# Altium integrated library ON Semi Transient Voltage Suppressors (TVS).IntLib: 730 symbols (part 8 of 17)
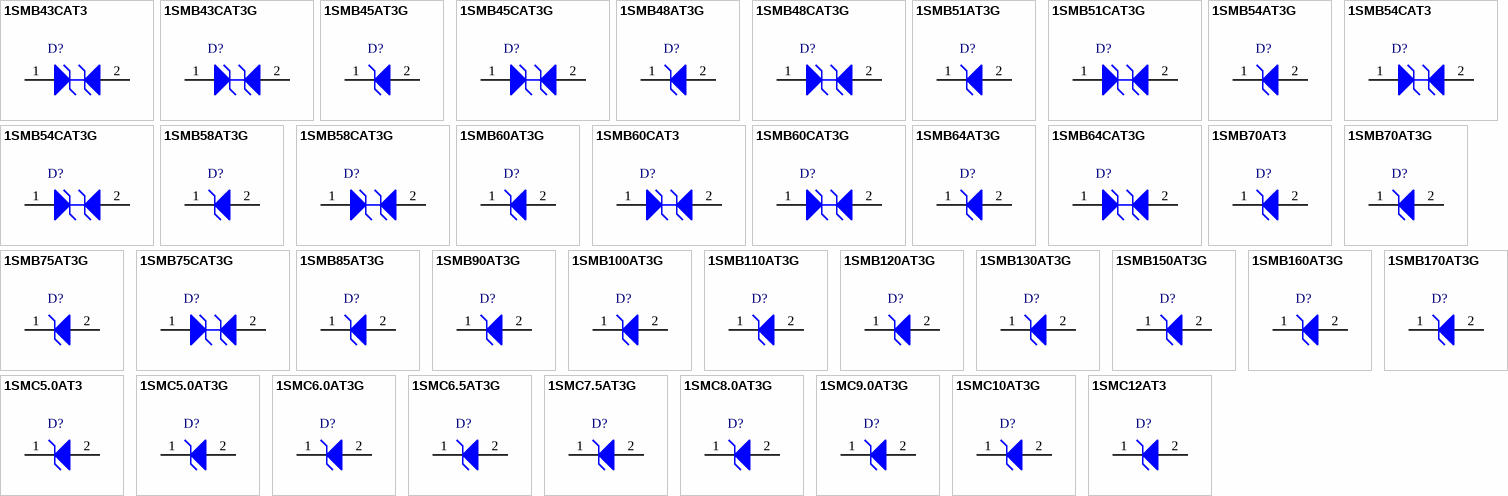
[diagram p25: symbols 1SMB43CAT3 to 1SMC12AT3]

## 1SMC5.0AT3G
designator D?
1500 W Peak Power Zener Transient Voltage Suppressor, Unidirectional, 2-Pin SMC, Pb-Free, Tape and Reel; Manufacturer: On Semiconductor; PartNumber: 1SMC5.0AT3G; IR Max (uA): 1000; PPK Max (W): 1500; V(BR) Typ (V): 6.7; DatasheetVersion: Rev. 8; PackageVersion: Rev. E, 08/2005; PackageReference: SMC-2-403-03; PackageDescription: 2-Pin Small Molded Package, J-Bend Lead, Body 5.845 x 6.855 mm; Supplier 1: Digi-Key; Supplier Part Number 1: 1SMC5.0AT3GOSTR-ND; Supplier 2: Digi-Key; Supplier Part Number 2: 1SMC5.0AT3GOSCT-ND; Supplier 3: Digi-Key; Supplier Part Number 3: 1SMC5.0AT3GOSDKR-ND; Supplier 4: Farnell; Supplier Part Number 4: 1126522; Supplier 5: Newark; Supplier Part Number 5: 45J2468; Supplier 6: Mouser; Supplier Part Number 6: 863-1SMC5.0AT3G; Direction: Unidirectional; Packing: Tape and Reel; RoHS: Pb-Free; Mounting Technology: Surface Mount; ComponentLink1Description: Manufacturer URL; ComponentLink1URL: http://www.onsemi.com/; ComponentLink2Description: Datasheet; ComponentLink2URL: http://www.onsemi.com/pub_link/Collateral/1SMC5.0AT3-D.PDF; ComponentLink3Description: Package Specification; ComponentLink3URL: http://www.onsemi.com/pub_link/Collateral/403-03.PDF
footprint ONSC-SMC-2-403-03_V (Molded, 2-Leads, Body 6.86x5.84mm)
pins: 1 K, 2 A

## 1SMC6.0AT3G
designator D?
1500 W Peak Power Zener Transient Voltage Suppressor, Unidirectional, 2-Pin SMC, Pb-Free, Tape and Reel; Manufacturer: On Semiconductor; PartNumber: 1SMC6.0AT3G; IR Max (uA): 1000; PPK Max (W): 1500; V(BR) Typ (V): 7.02; DatasheetVersion: Rev. 8; PackageVersion: Rev. E, 08/2005; PackageReference: SMC-2-403-03; PackageDescription: 2-Pin Small Molded Package, J-Bend Lead, Body 5.845 x 6.855 mm; Supplier 1: Digi-Key; Supplier Part Number 1: 1SMC6.0AT3GOSTR-ND; Supplier 2: Digi-Key; Supplier Part Number 2: 1SMC6.0AT3GOSCT-ND; Supplier 3: Digi-Key; Supplier Part Number 3: 1SMC6.0AT3GOSDKR-ND; Supplier 4: Newark; Supplier Part Number 4: 24K0851; Supplier 5: Mouser; Supplier Part Number 5: 863-1SMC6.0AT3G; Direction: Unidirectional; Packing: Tape and Reel; RoHS: Pb-Free; Mounting Technology: Surface Mount; ComponentLink1Description: Manufacturer URL; ComponentLink1URL: http://www.onsemi.com/; ComponentLink2Description: Datasheet; ComponentLink2URL: http://www.onsemi.com/pub_link/Collateral/1SMC5.0AT3-D.PDF; ComponentLink3Description: Package Specification; ComponentLink3URL: http://www.onsemi.com/pub_link/Collateral/403-03.PDF
footprint ONSC-SMC-2-403-03_V (Molded, 2-Leads, Body 6.86x5.84mm)
pins: 1 K, 2 A

## 1SMC6.5AT3G
designator D?
1500 W Peak Power Zener Transient Voltage Suppressor, Unidirectional, 2-Pin SMC, Pb-Free, Tape and Reel; Manufacturer: On Semiconductor; PartNumber: 1SMC6.5AT3G; IR Max (uA): 500; PPK Max (W): 1500; V(BR) Typ (V): 7.6; DatasheetVersion: Rev. 8; PackageVersion: Rev. E, 08/2005; PackageReference: SMC-2-403-03; PackageDescription: 2-Pin Small Molded Package, J-Bend Lead, Body 5.845 x 6.855 mm; Supplier 1: Digi-Key; Supplier Part Number 1: 1SMC6.5AT3G-ND; Supplier 2: Newark; Supplier Part Number 2: 26K5272; Supplier 3: Mouser; Supplier Part Number 3: 863-1SMC6.5AT3G; Direction: Unidirectional; Packing: Tape and Reel; RoHS: Pb-Free; Mounting Technology: Surface Mount; ComponentLink1Description: Manufacturer URL; ComponentLink1URL: http://www.onsemi.com/; ComponentLink2Description: Datasheet; ComponentLink2URL: http://www.onsemi.com/pub_link/Collateral/1SMC5.0AT3-D.PDF; ComponentLink3Description: Package Specification; ComponentLink3URL: http://www.onsemi.com/pub_link/Collateral/403-03.PDF
footprint ONSC-SMC-2-403-03_V (Molded, 2-Leads, Body 6.86x5.84mm)
pins: 1 K, 2 A

## 1SMC7.5AT3G
designator D?
1500 W Peak Power Zener Transient Voltage Suppressor, Unidirectional, 2-Pin SMC, Pb-Free, Tape and Reel; Manufacturer: On Semiconductor; PartNumber: 1SMC7.5AT3G; IR Max (uA): 100; PPK Max (W): 1500; V(BR) Typ (V): 8.77; DatasheetVersion: Rev. 8; PackageVersion: Rev. E, 08/2005; PackageReference: SMC-2-403-03; PackageDescription: 2-Pin Small Molded Package, J-Bend Lead, Body 5.845 x 6.855 mm; Supplier 1: Digi-Key; Supplier Part Number 1: 1SMC7.5AT3G-ND; Supplier 2: Mouser; Supplier Part Number 2: 863-1SMC7.5AT3G; Direction: Unidirectional; Packing: Tape and Reel; RoHS: Pb-Free; Mounting Technology: Surface Mount; ComponentLink1Description: Manufacturer URL; ComponentLink1URL: http://www.onsemi.com/; ComponentLink2Description: Datasheet; ComponentLink2URL: http://www.onsemi.com/pub_link/Collateral/1SMC5.0AT3-D.PDF; ComponentLink3Description: Package Specification; ComponentLink3URL: http://www.onsemi.com/pub_link/Collateral/403-03.PDF
footprint ONSC-SMC-2-403-03_V (Molded, 2-Leads, Body 6.86x5.84mm)
pins: 1 K, 2 A

## 1SMC8.0AT3G
designator D?
1500 W Peak Power Zener Transient Voltage Suppressor, Unidirectional, 2-Pin SMC, Pb-Free, Tape and Reel; Manufacturer: On Semiconductor; PartNumber: 1SMC8.0AT3G; IR Max (uA): 50; PPK Max (W): 1500; V(BR) Typ (V): 9.36; DatasheetVersion: Rev. 8; PackageVersion: Rev. E, 08/2005; PackageReference: SMC-2-403-03; PackageDescription: 2-Pin Small Molded Package, J-Bend Lead, Body 5.845 x 6.855 mm; Supplier 1: Digi-Key; Supplier Part Number 1: 1SMC8.0AT3G-ND; Supplier 2: Newark; Supplier Part Number 2: 42K3122; Supplier 3: Mouser; Supplier Part Number 3: 863-1SMC8.0AT3G; Direction: Unidirectional; Packing: Tape and Reel; RoHS: Pb-Free; Mounting Technology: Surface Mount; ComponentLink1Description: Manufacturer URL; ComponentLink1URL: http://www.onsemi.com/; ComponentLink2Description: Datasheet; ComponentLink2URL: http://www.onsemi.com/pub_link/Collateral/1SMC5.0AT3-D.PDF; ComponentLink3Description: Package Specification; ComponentLink3URL: http://www.onsemi.com/pub_link/Collateral/403-03.PDF
footprint ONSC-SMC-2-403-03_V (Molded, 2-Leads, Body 6.86x5.84mm)
pins: 1 K, 2 A

## 1SMC9.0AT3G
designator D?
1500 W Peak Power Zener Transient Voltage Suppressor, Unidirectional, 2-Pin SMC, Pb-Free, Tape and Reel; Manufacturer: On Semiconductor; PartNumber: 1SMC9.0AT3G; IR Max (uA): 10; PPK Max (W): 1500; V(BR) Typ (V): 10.55; DatasheetVersion: Rev. 8; PackageVersion: Rev. E, 08/2005; PackageReference: SMC-2-403-03; PackageDescription: 2-Pin Small Molded Package, J-Bend Lead, Body 5.845 x 6.855 mm; Supplier 1: Digi-Key; Supplier Part Number 1: 1SMC9.0AT3G-ND; Supplier 2: Mouser; Supplier Part Number 2: 863-1SMC9.0AT3G; Direction: Unidirectional; Packing: Tape and Reel; RoHS: Pb-Free; Mounting Technology: Surface Mount; ComponentLink1Description: Manufacturer URL; ComponentLink1URL: http://www.onsemi.com/; ComponentLink2Description: Datasheet; ComponentLink2URL: http://www.onsemi.com/pub_link/Collateral/1SMC5.0AT3-D.PDF; ComponentLink3Description: Package Specification; ComponentLink3URL: http://www.onsemi.com/pub_link/Collateral/403-03.PDF
footprint ONSC-SMC-2-403-03_V (Molded, 2-Leads, Body 6.86x5.84mm)
pins: 1 K, 2 A

## 1SMC10AT3G
designator D?
1500 W Peak Power Zener Transient Voltage Suppressor, Unidirectional, 2-Pin SMC, Pb-Free, Tape and Reel; Manufacturer: On Semiconductor; PartNumber: 1SMC10AT3G; IR Max (uA): 5; PPK Max (W): 1500; V(BR) Typ (V): 11.7; DatasheetVersion: Rev. 8; PackageVersion: Rev. E, 08/2005; PackageReference: SMC-2-403-03; PackageDescription: 2-Pin Small Molded Package, J-Bend Lead, Body 5.845 x 6.855 mm; Supplier 1: Digi-Key; Supplier Part Number 1: 1SMC10AT3G-ND; Supplier 2: Newark; Supplier Part Number 2: 71J9235; Supplier 3: Mouser; Supplier Part Number 3: 863-1SMC10AT3G; Direction: Unidirectional; Packing: Tape and Reel; RoHS: Pb-Free; Mounting Technology: Surface Mount; ComponentLink1Description: Manufacturer URL; ComponentLink1URL: http://www.onsemi.com/; ComponentLink2Description: Datasheet; ComponentLink2URL: http://www.onsemi.com/pub_link/Collateral/1SMC5.0AT3-D.PDF; ComponentLink3Description: Package Specification; ComponentLink3URL: http://www.onsemi.com/pub_link/Collateral/403-03.PDF
footprint ONSC-SMC-2-403-03_V (Molded, 2-Leads, Body 6.86x5.84mm)
pins: 1 K, 2 A

## 1SMC12AT3
designator D?
1500 W Peak Power Zener Transient Voltage Suppressor, Unidirectional, 2-Pin SMC, Tape and Reel; Manufacturer: On Semiconductor; PartNumber: 1SMC12AT3; IR Max (uA): 5; PPK Max (W): 1500; V(BR) Typ (V): 14; DatasheetVersion: Rev. 8; PackageVersion: Rev. E, 08/2005; PackageReference: SMC-2-403-03; PackageDescription: 2-Pin Small Molded Package, J-Bend Lead, Body 5.845 x 6.855 mm; Supplier 1: Digi-Key; Supplier Part Number 1: 1SMC12AT3OSCT-ND; Direction: Unidirectional; Packing: Tape and Reel; Mounting Technology: Surface Mount; ComponentLink1Description: Manufacturer URL; ComponentLink1URL: http://www.onsemi.com/; ComponentLink2Description: Datasheet; ComponentLink2URL: http://www.onsemi.com/pub_link/Collateral/1SMC5.0AT3-D.PDF; ComponentLink3Description: Package Specification; ComponentLink3URL: http://www.onsemi.com/pub_link/Collateral/403-03.PDF
footprint ONSC-SMC-2-403-03_V (Molded, 2-Leads, Body 6.86x5.84mm)
pins: 1 K, 2 A

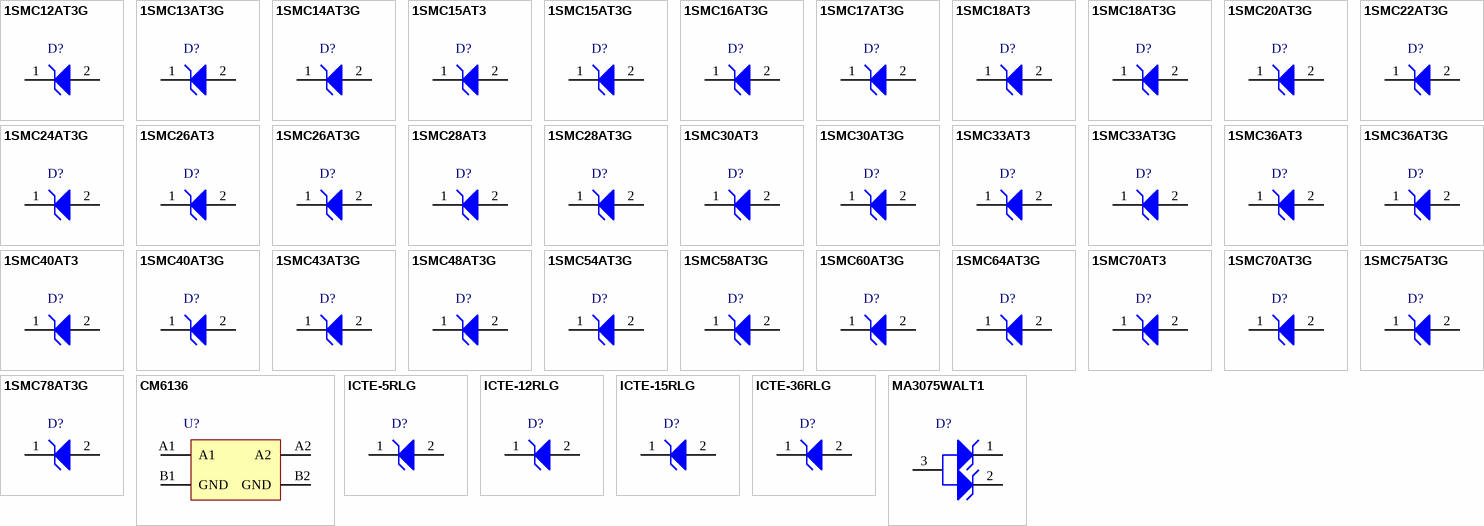
[diagram p8: symbols 1SMC12AT3G to MA3075WALT1]

## 1SMC12AT3G
designator D?
1500 W Peak Power Zener Transient Voltage Suppressor, Unidirectional, 2-Pin SMC, Pb-Free, Tape and Reel; Manufacturer: On Semiconductor; PartNumber: 1SMC12AT3G; IR Max (uA): 5; PPK Max (W): 1500; V(BR) Typ (V): 14; DatasheetVersion: Rev. 8; PackageVersion: Rev. E, 08/2005; PackageReference: SMC-2-403-03; PackageDescription: 2-Pin Small Molded Package, J-Bend Lead, Body 5.845 x 6.855 mm; Supplier 1: Digi-Key; Supplier Part Number 1: 1SMC12AT3GOSTR-ND; Supplier 2: Digi-Key; Supplier Part Number 2: 1SMC12AT3GOSCT-ND; Supplier 3: Digi-Key; Supplier Part Number 3: 1SMC12AT3GOSDKR-ND; Supplier 4: Farnell; Supplier Part Number 4: 1705720; Supplier 5: Newark; Supplier Part Number 5: 10N9679; Supplier 6: Newark; Supplier Part Number 6: 42K3110; Supplier 7: Mouser; Supplier Part Number 7: 863-1SMC12AT3G; Direction: Unidirectional; Packing: Tape and Reel; RoHS: Pb-Free; Mounting Technology: Surface Mount; ComponentLink1Description: Manufacturer URL; ComponentLink1URL: http://www.onsemi.com/; ComponentLink2Description: Datasheet; ComponentLink2URL: http://www.onsemi.com/pub_link/Collateral/1SMC5.0AT3-D.PDF; ComponentLink3Description: Package Specification; ComponentLink3URL: http://www.onsemi.com/pub_link/Collateral/403-03.PDF
footprint ONSC-SMC-2-403-03_V (Molded, 2-Leads, Body 6.86x5.84mm)
pins: 1 K, 2 A

## 1SMC13AT3G
designator D?
1500 W Peak Power Zener Transient Voltage Suppressor, Unidirectional, 2-Pin SMC, Pb-Free, Tape and Reel; Manufacturer: On Semiconductor; PartNumber: 1SMC13AT3G; IR Max (uA): 5; PPK Max (W): 1500; V(BR) Typ (V): 15.15; DatasheetVersion: Rev. 8; PackageVersion: Rev. E, 08/2005; PackageReference: SMC-2-403-03; PackageDescription: 2-Pin Small Molded Package, J-Bend Lead, Body 5.845 x 6.855 mm; Supplier 1: Digi-Key; Supplier Part Number 1: 1SMC13AT3G-ND; Supplier 2: Newark; Supplier Part Number 2: 42K3111; Supplier 3: Mouser; Supplier Part Number 3: 863-1SMC13AT3G; Direction: Unidirectional; Packing: Tape and Reel; RoHS: Pb-Free; Mounting Technology: Surface Mount; ComponentLink1Description: Manufacturer URL; ComponentLink1URL: http://www.onsemi.com/; ComponentLink2Description: Datasheet; ComponentLink2URL: http://www.onsemi.com/pub_link/Collateral/1SMC5.0AT3-D.PDF; ComponentLink3Description: Package Specification; ComponentLink3URL: http://www.onsemi.com/pub_link/Collateral/403-03.PDF
footprint ONSC-SMC-2-403-03_V (Molded, 2-Leads, Body 6.86x5.84mm)
pins: 1 K, 2 A

## 1SMC14AT3G
designator D?
1500 W Peak Power Zener Transient Voltage Suppressor, Unidirectional, 2-Pin SMC, Pb-Free, Tape and Reel; Manufacturer: On Semiconductor; PartNumber: 1SMC14AT3G; IR Max (uA): 5; PPK Max (W): 1500; V(BR) Typ (V): 16.4; DatasheetVersion: Rev. 8; PackageVersion: Rev. E, 08/2005; PackageReference: SMC-2-403-03; PackageDescription: 2-Pin Small Molded Package, J-Bend Lead, Body 5.845 x 6.855 mm; Supplier 1: Digi-Key; Supplier Part Number 1: 1SMC14AT3G-ND; Supplier 2: Newark; Supplier Part Number 2: 42K3112; Supplier 3: Mouser; Supplier Part Number 3: 863-1SMC14AT3G; Direction: Unidirectional; Packing: Tape and Reel; RoHS: Pb-Free; Mounting Technology: Surface Mount; ComponentLink1Description: Manufacturer URL; ComponentLink1URL: http://www.onsemi.com/; ComponentLink2Description: Datasheet; ComponentLink2URL: http://www.onsemi.com/pub_link/Collateral/1SMC5.0AT3-D.PDF; ComponentLink3Description: Package Specification; ComponentLink3URL: http://www.onsemi.com/pub_link/Collateral/403-03.PDF
footprint ONSC-SMC-2-403-03_V (Molded, 2-Leads, Body 6.86x5.84mm)
pins: 1 K, 2 A

## 1SMC15AT3
designator D?
1500 W Peak Power Zener Transient Voltage Suppressor, Unidirectional, 2-Pin SMC, Tape and Reel; Manufacturer: On Semiconductor; PartNumber: 1SMC15AT3; IR Max (uA): 5; PPK Max (W): 1500; V(BR) Typ (V): 17.6; DatasheetVersion: Rev. 8; PackageVersion: Rev. E, 08/2005; PackageReference: SMC-2-403-03; PackageDescription: 2-Pin Small Molded Package, J-Bend Lead, Body 5.845 x 6.855 mm; Supplier 1: Digi-Key; Supplier Part Number 1: 1SMC15AT3OSCT-ND; Direction: Unidirectional; Packing: Tape and Reel; Mounting Technology: Surface Mount; ComponentLink1Description: Manufacturer URL; ComponentLink1URL: http://www.onsemi.com/; ComponentLink2Description: Datasheet; ComponentLink2URL: http://www.onsemi.com/pub_link/Collateral/1SMC5.0AT3-D.PDF; ComponentLink3Description: Package Specification; ComponentLink3URL: http://www.onsemi.com/pub_link/Collateral/403-03.PDF
footprint ONSC-SMC-2-403-03_V (Molded, 2-Leads, Body 6.86x5.84mm)
pins: 1 K, 2 A

## 1SMC15AT3G
designator D?
1500 W Peak Power Zener Transient Voltage Suppressor, Unidirectional, 2-Pin SMC, Pb-Free, Tape and Reel; Manufacturer: On Semiconductor; PartNumber: 1SMC15AT3G; IR Max (uA): 5; PPK Max (W): 1500; V(BR) Typ (V): 17.6; DatasheetVersion: Rev. 8; PackageVersion: Rev. E, 08/2005; PackageReference: SMC-2-403-03; PackageDescription: 2-Pin Small Molded Package, J-Bend Lead, Body 5.845 x 6.855 mm; Supplier 1: Digi-Key; Supplier Part Number 1: 1SMC15AT3GOSTR-ND; Supplier 2: Digi-Key; Supplier Part Number 2: 1SMC15AT3GOSCT-ND; Supplier 3: Digi-Key; Supplier Part Number 3: 1SMC15AT3GOSDKR-ND; Supplier 4: Newark; Supplier Part Number 4: 45J2465; Supplier 5: Newark; Supplier Part Number 5: 10N9680; Supplier 6: Mouser; Supplier Part Number 6: 863-1SMC15AT3G; Direction: Unidirectional; Packing: Tape and Reel; RoHS: Pb-Free; Mounting Technology: Surface Mount; ComponentLink1Description: Manufacturer URL; ComponentLink1URL: http://www.onsemi.com/; ComponentLink2Description: Datasheet; ComponentLink2URL: http://www.onsemi.com/pub_link/Collateral/1SMC5.0AT3-D.PDF; ComponentLink3Description: Package Specification; ComponentLink3URL: http://www.onsemi.com/pub_link/Collateral/403-03.PDF
footprint ONSC-SMC-2-403-03_V (Molded, 2-Leads, Body 6.86x5.84mm)
pins: 1 K, 2 A

## 1SMC16AT3G
designator D?
1500 W Peak Power Zener Transient Voltage Suppressor, Unidirectional, 2-Pin SMC, Pb-Free, Tape and Reel; Manufacturer: On Semiconductor; PartNumber: 1SMC16AT3G; IR Max (uA): 5; PPK Max (W): 1500; V(BR) Typ (V): 18.75; DatasheetVersion: Rev. 8; PackageVersion: Rev. E, 08/2005; PackageReference: SMC-2-403-03; PackageDescription: 2-Pin Small Molded Package, J-Bend Lead, Body 5.845 x 6.855 mm; Supplier 1: Digi-Key; Supplier Part Number 1: 1SMC16AT3G-ND; Supplier 2: Newark; Supplier Part Number 2: 42K3113; Supplier 3: Mouser; Supplier Part Number 3: 863-1SMC16AT3G; Direction: Unidirectional; Packing: Tape and Reel; RoHS: Pb-Free; Mounting Technology: Surface Mount; ComponentLink1Description: Manufacturer URL; ComponentLink1URL: http://www.onsemi.com/; ComponentLink2Description: Datasheet; ComponentLink2URL: http://www.onsemi.com/pub_link/Collateral/1SMC5.0AT3-D.PDF; ComponentLink3Description: Package Specification; ComponentLink3URL: http://www.onsemi.com/pub_link/Collateral/403-03.PDF
footprint ONSC-SMC-2-403-03_V (Molded, 2-Leads, Body 6.86x5.84mm)
pins: 1 K, 2 A

## 1SMC17AT3G
designator D?
1500 W Peak Power Zener Transient Voltage Suppressor, Unidirectional, 2-Pin SMC, Pb-Free, Tape and Reel; Manufacturer: On Semiconductor; PartNumber: 1SMC17AT3G; IR Max (uA): 5; PPK Max (W): 1500; V(BR) Typ (V): 19.9; DatasheetVersion: Rev. 8; PackageVersion: Rev. E, 08/2005; PackageReference: SMC-2-403-03; PackageDescription: 2-Pin Small Molded Package, J-Bend Lead, Body 5.845 x 6.855 mm; Supplier 1: Digi-Key; Supplier Part Number 1: 1SMC17AT3G-ND; Supplier 2: Mouser; Supplier Part Number 2: 863-1SMC17AT3G; Direction: Unidirectional; Packing: Tape and Reel; RoHS: Pb-Free; Mounting Technology: Surface Mount; ComponentLink1Description: Manufacturer URL; ComponentLink1URL: http://www.onsemi.com/; ComponentLink2Description: Datasheet; ComponentLink2URL: http://www.onsemi.com/pub_link/Collateral/1SMC5.0AT3-D.PDF; ComponentLink3Description: Package Specification; ComponentLink3URL: http://www.onsemi.com/pub_link/Collateral/403-03.PDF
footprint ONSC-SMC-2-403-03_V (Molded, 2-Leads, Body 6.86x5.84mm)
pins: 1 K, 2 A

## 1SMC18AT3
designator D?
1500 W Peak Power Zener Transient Voltage Suppressor, Unidirectional, 2-Pin SMC, Tape and Reel; Manufacturer: On Semiconductor; PartNumber: 1SMC18AT3; IR Max (uA): 5; PPK Max (W): 1500; V(BR) Typ (V): 21.05; DatasheetVersion: Rev. 8; PackageVersion: Rev. E, 08/2005; PackageReference: SMC-2-403-03; PackageDescription: 2-Pin Small Molded Package, J-Bend Lead, Body 5.845 x 6.855 mm; Supplier 1: Digi-Key; Supplier Part Number 1: 1SMC18AT3OSTR-ND; Supplier 2: Digi-Key; Supplier Part Number 2: 1SMC18AT3OSCT-ND; Direction: Unidirectional; Packing: Tape and Reel; Mounting Technology: Surface Mount; ComponentLink1Description: Manufacturer URL; ComponentLink1URL: http://www.onsemi.com/; ComponentLink2Description: Datasheet; ComponentLink2URL: http://www.onsemi.com/pub_link/Collateral/1SMC5.0AT3-D.PDF; ComponentLink3Description: Package Specification; ComponentLink3URL: http://www.onsemi.com/pub_link/Collateral/403-03.PDF
footprint ONSC-SMC-2-403-03_V (Molded, 2-Leads, Body 6.86x5.84mm)
pins: 1 K, 2 A

## 1SMC18AT3G
designator D?
1500 W Peak Power Zener Transient Voltage Suppressor, Unidirectional, 2-Pin SMC, Pb-Free, Tape and Reel; Manufacturer: On Semiconductor; PartNumber: 1SMC18AT3G; IR Max (uA): 5; PPK Max (W): 1500; V(BR) Typ (V): 21.05; DatasheetVersion: Rev. 8; PackageVersion: Rev. E, 08/2005; PackageReference: SMC-2-403-03; PackageDescription: 2-Pin Small Molded Package, J-Bend Lead, Body 5.845 x 6.855 mm; Supplier 1: Digi-Key; Supplier Part Number 1: 1SMC18AT3GOSTR-ND; Supplier 2: Digi-Key; Supplier Part Number 2: 1SMC18AT3GOSCT-ND; Supplier 3: Digi-Key; Supplier Part Number 3: 1SMC18AT3GOSDKR-ND; Supplier 4: Newark; Supplier Part Number 4: 10N9681; Supplier 5: Newark; Supplier Part Number 5: 42K3115; Supplier 6: Mouser; Supplier Part Number 6: 863-1SMC18AT3G; Direction: Unidirectional; Packing: Tape and Reel; RoHS: Pb-Free; Mounting Technology: Surface Mount; ComponentLink1Description: Manufacturer URL; ComponentLink1URL: http://www.onsemi.com/; ComponentLink2Description: Datasheet; ComponentLink2URL: http://www.onsemi.com/pub_link/Collateral/1SMC5.0AT3-D.PDF; ComponentLink3Description: Package Specification; ComponentLink3URL: http://www.onsemi.com/pub_link/Collateral/403-03.PDF
footprint ONSC-SMC-2-403-03_V (Molded, 2-Leads, Body 6.86x5.84mm)
pins: 1 K, 2 A

## 1SMC20AT3G
designator D?
1500 W Peak Power Zener Transient Voltage Suppressor, Unidirectional, 2-Pin SMC, Pb-Free, Tape and Reel; Manufacturer: On Semiconductor; PartNumber: 1SMC20AT3G; IR Max (uA): 5; PPK Max (W): 1500; V(BR) Typ (V): 23.35; DatasheetVersion: Rev. 8; PackageVersion: Rev. E, 08/2005; PackageReference: SMC-2-403-03; PackageDescription: 2-Pin Small Molded Package, J-Bend Lead, Body 5.845 x 6.855 mm; Supplier 1: Digi-Key; Supplier Part Number 1: 1SMC20AT3G-ND; Supplier 2: Newark; Supplier Part Number 2: 45J2466; Supplier 3: Mouser; Supplier Part Number 3: 863-1SMC20AT3G; Direction: Unidirectional; Packing: Tape and Reel; RoHS: Pb-Free; Mounting Technology: Surface Mount; ComponentLink1Description: Manufacturer URL; ComponentLink1URL: http://www.onsemi.com/; ComponentLink2Description: Datasheet; ComponentLink2URL: http://www.onsemi.com/pub_link/Collateral/1SMC5.0AT3-D.PDF; ComponentLink3Description: Package Specification; ComponentLink3URL: http://www.onsemi.com/pub_link/Collateral/403-03.PDF
footprint ONSC-SMC-2-403-03_V (Molded, 2-Leads, Body 6.86x5.84mm)
pins: 1 K, 2 A

## 1SMC22AT3G
designator D?
1500 W Peak Power Zener Transient Voltage Suppressor, Unidirectional, 2-Pin SMC, Pb-Free, Tape and Reel; Manufacturer: On Semiconductor; PartNumber: 1SMC22AT3G; IR Max (uA): 5; PPK Max (W): 1500; V(BR) Typ (V): 25.65; DatasheetVersion: Rev. 8; PackageVersion: Rev. E, 08/2005; PackageReference: SMC-2-403-03; PackageDescription: 2-Pin Small Molded Package, J-Bend Lead, Body 5.845 x 6.855 mm; Supplier 1: Digi-Key; Supplier Part Number 1: 1SMC22AT3G-ND; Supplier 2: Newark; Supplier Part Number 2: 71J9236; Supplier 3: Mouser; Supplier Part Number 3: 863-1SMC22AT3G; Direction: Unidirectional; Packing: Tape and Reel; RoHS: Pb-Free; Mounting Technology: Surface Mount; ComponentLink1Description: Manufacturer URL; ComponentLink1URL: http://www.onsemi.com/; ComponentLink2Description: Datasheet; ComponentLink2URL: http://www.onsemi.com/pub_link/Collateral/1SMC5.0AT3-D.PDF; ComponentLink3Description: Package Specification; ComponentLink3URL: http://www.onsemi.com/pub_link/Collateral/403-03.PDF
footprint ONSC-SMC-2-403-03_V (Molded, 2-Leads, Body 6.86x5.84mm)
pins: 1 K, 2 A

## 1SMC24AT3G
designator D?
1500 W Peak Power Zener Transient Voltage Suppressor, Unidirectional, 2-Pin SMC, Pb-Free, Tape and Reel; Manufacturer: On Semiconductor; PartNumber: 1SMC24AT3G; IR Max (uA): 5; PPK Max (W): 1500; V(BR) Typ (V): 28.1; DatasheetVersion: Rev. 8; PackageVersion: Rev. E, 08/2005; PackageReference: SMC-2-403-03; PackageDescription: 2-Pin Small Molded Package, J-Bend Lead, Body 5.845 x 6.855 mm; Supplier 1: Digi-Key; Supplier Part Number 1: 1SMC24AT3GOSTR-ND; Supplier 2: Digi-Key; Supplier Part Number 2: 1SMC24AT3GOSCT-ND; Supplier 3: Digi-Key; Supplier Part Number 3: 1SMC24AT3GOSDKR-ND; Supplier 4: Farnell; Supplier Part Number 4: 1177303; Supplier 5: Newark; Supplier Part Number 5: 71J9237; Supplier 6: Mouser; Supplier Part Number 6: 863-1SMC24AT3G; Direction: Unidirectional; Packing: Tape and Reel; RoHS: Pb-Free; Mounting Technology: Surface Mount; ComponentLink1Description: Manufacturer URL; ComponentLink1URL: http://www.onsemi.com/; ComponentLink2Description: Datasheet; ComponentLink2URL: http://www.onsemi.com/pub_link/Collateral/1SMC5.0AT3-D.PDF; ComponentLink3Description: Package Specification; ComponentLink3URL: http://www.onsemi.com/pub_link/Collateral/403-03.PDF
footprint ONSC-SMC-2-403-03_V (Molded, 2-Leads, Body 6.86x5.84mm)
pins: 1 K, 2 A

## 1SMC26AT3
designator D?
1500 W Peak Power Zener Transient Voltage Suppressor, Unidirectional, 2-Pin SMC, Tape and Reel; Manufacturer: On Semiconductor; PartNumber: 1SMC26AT3; IR Max (uA): 5; PPK Max (W): 1500; V(BR) Typ (V): 30.4; DatasheetVersion: Rev. 8; PackageVersion: Rev. E, 08/2005; PackageReference: SMC-2-403-03; PackageDescription: 2-Pin Small Molded Package, J-Bend Lead, Body 5.845 x 6.855 mm; Supplier 1: Digi-Key; Supplier Part Number 1: 1SMC26AT3OSCT-ND; Direction: Unidirectional; Packing: Tape and Reel; Mounting Technology: Surface Mount; ComponentLink1Description: Manufacturer URL; ComponentLink1URL: http://www.onsemi.com/; ComponentLink2Description: Datasheet; ComponentLink2URL: http://www.onsemi.com/pub_link/Collateral/1SMC5.0AT3-D.PDF; ComponentLink3Description: Package Specification; ComponentLink3URL: http://www.onsemi.com/pub_link/Collateral/403-03.PDF
footprint ONSC-SMC-2-403-03_V (Molded, 2-Leads, Body 6.86x5.84mm)
pins: 1 K, 2 A

## 1SMC26AT3G
designator D?
1500 W Peak Power Zener Transient Voltage Suppressor, Unidirectional, 2-Pin SMC, Pb-Free, Tape and Reel; Manufacturer: On Semiconductor; PartNumber: 1SMC26AT3G; IR Max (uA): 5; PPK Max (W): 1500; V(BR) Typ (V): 30.4; DatasheetVersion: Rev. 8; PackageVersion: Rev. E, 08/2005; PackageReference: SMC-2-403-03; PackageDescription: 2-Pin Small Molded Package, J-Bend Lead, Body 5.845 x 6.855 mm; Supplier 1: Digi-Key; Supplier Part Number 1: 1SMC26AT3GOSTR-ND; Supplier 2: Digi-Key; Supplier Part Number 2: 1SMC26AT3GOSCT-ND; Supplier 3: Digi-Key; Supplier Part Number 3: 1SMC26AT3GOSDKR-ND; Supplier 4: Newark; Supplier Part Number 4: 26K5270; Supplier 5: Mouser; Supplier Part Number 5: 863-1SMC26AT3G; Direction: Unidirectional; Packing: Tape and Reel; RoHS: Pb-Free; Mounting Technology: Surface Mount; ComponentLink1Description: Manufacturer URL; ComponentLink1URL: http://www.onsemi.com/; ComponentLink2Description: Datasheet; ComponentLink2URL: http://www.onsemi.com/pub_link/Collateral/1SMC5.0AT3-D.PDF; ComponentLink3Description: Package Specification; ComponentLink3URL: http://www.onsemi.com/pub_link/Collateral/403-03.PDF
footprint ONSC-SMC-2-403-03_V (Molded, 2-Leads, Body 6.86x5.84mm)
pins: 1 K, 2 A

## 1SMC28AT3
designator D?
1500 W Peak Power Zener Transient Voltage Suppressor, Unidirectional, 2-Pin SMC, Tape and Reel; Manufacturer: On Semiconductor; PartNumber: 1SMC28AT3; IR Max (uA): 5; PPK Max (W): 1500; V(BR) Typ (V): 32.75; DatasheetVersion: Rev. 8; PackageVersion: Rev. E, 08/2005; PackageReference: SMC-2-403-03; PackageDescription: 2-Pin Small Molded Package, J-Bend Lead, Body 5.845 x 6.855 mm; Supplier 1: Digi-Key; Supplier Part Number 1: 1SMC28AT3OSCT-ND; Direction: Unidirectional; Packing: Tape and Reel; Mounting Technology: Surface Mount; ComponentLink1Description: Manufacturer URL; ComponentLink1URL: http://www.onsemi.com/; ComponentLink2Description: Datasheet; ComponentLink2URL: http://www.onsemi.com/pub_link/Collateral/1SMC5.0AT3-D.PDF; ComponentLink3Description: Package Specification; ComponentLink3URL: http://www.onsemi.com/pub_link/Collateral/403-03.PDF
footprint ONSC-SMC-2-403-03_V (Molded, 2-Leads, Body 6.86x5.84mm)
pins: 1 K, 2 A

## 1SMC28AT3G
designator D?
1500 W Peak Power Zener Transient Voltage Suppressor, Unidirectional, 2-Pin SMC, Pb-Free, Tape and Reel; Manufacturer: On Semiconductor; PartNumber: 1SMC28AT3G; IR Max (uA): 5; PPK Max (W): 1500; V(BR) Typ (V): 32.75; DatasheetVersion: Rev. 8; PackageVersion: Rev. E, 08/2005; PackageReference: SMC-2-403-03; PackageDescription: 2-Pin Small Molded Package, J-Bend Lead, Body 5.845 x 6.855 mm; Supplier 1: Digi-Key; Supplier Part Number 1: 1SMC28AT3GOSTR-ND; Supplier 2: Digi-Key; Supplier Part Number 2: 1SMC28AT3GOSCT-ND; Supplier 3: Digi-Key; Supplier Part Number 3: 1SMC28AT3GOSDKR-ND; Supplier 4: Newark; Supplier Part Number 4: 42K3116; Supplier 5: Mouser; Supplier Part Number 5: 863-1SMC28AT3G; Direction: Unidirectional; Packing: Tape and Reel; RoHS: Pb-Free; Mounting Technology: Surface Mount; ComponentLink1Description: Manufacturer URL; ComponentLink1URL: http://www.onsemi.com/; ComponentLink2Description: Datasheet; ComponentLink2URL: http://www.onsemi.com/pub_link/Collateral/1SMC5.0AT3-D.PDF; ComponentLink3Description: Package Specification; ComponentLink3URL: http://www.onsemi.com/pub_link/Collateral/403-03.PDF
footprint ONSC-SMC-2-403-03_V (Molded, 2-Leads, Body 6.86x5.84mm)
pins: 1 K, 2 A

## 1SMC30AT3
designator D?
1500 W Peak Power Zener Transient Voltage Suppressor, Unidirectional, 2-Pin SMC, Tape and Reel; Manufacturer: On Semiconductor; PartNumber: 1SMC30AT3; IR Max (uA): 5; PPK Max (W): 1500; V(BR) Typ (V): 35.05; DatasheetVersion: Rev. 8; PackageVersion: Rev. E, 08/2005; PackageReference: SMC-2-403-03; PackageDescription: 2-Pin Small Molded Package, J-Bend Lead, Body 5.845 x 6.855 mm; Direction: Unidirectional; Packing: Tape and Reel; Mounting Technology: Surface Mount; ComponentLink1Description: Manufacturer URL; ComponentLink1URL: http://www.onsemi.com/; ComponentLink2Description: Datasheet; ComponentLink2URL: http://www.onsemi.com/pub_link/Collateral/1SMC5.0AT3-D.PDF; ComponentLink3Description: Package Specification; ComponentLink3URL: http://www.onsemi.com/pub_link/Collateral/403-03.PDF
footprint ONSC-SMC-2-403-03_V (Molded, 2-Leads, Body 6.86x5.84mm)
pins: 1 K, 2 A

## 1SMC30AT3G
designator D?
1500 W Peak Power Zener Transient Voltage Suppressor, Unidirectional, 2-Pin SMC, Pb-Free, Tape and Reel; Manufacturer: On Semiconductor; PartNumber: 1SMC30AT3G; IR Max (uA): 5; PPK Max (W): 1500; V(BR) Typ (V): 35.05; DatasheetVersion: Rev. 8; PackageVersion: Rev. E, 08/2005; PackageReference: SMC-2-403-03; PackageDescription: 2-Pin Small Molded Package, J-Bend Lead, Body 5.845 x 6.855 mm; Supplier 1: Digi-Key; Supplier Part Number 1: 1SMC30AT3GOSTR-ND; Supplier 2: Digi-Key; Supplier Part Number 2: 1SMC30AT3GOSCT-ND; Supplier 3: Digi-Key; Supplier Part Number 3: 1SMC30AT3GOSDKR-ND; Supplier 4: Farnell; Supplier Part Number 4: 1899530; Supplier 5: Newark; Supplier Part Number 5: 09R9843; Supplier 6: Mouser; Supplier Part Number 6: 863-1SMC30AT3G; Direction: Unidirectional; Packing: Tape and Reel; RoHS: Pb-Free; Mounting Technology: Surface Mount; ComponentLink1Description: Manufacturer URL; ComponentLink1URL: http://www.onsemi.com/; ComponentLink2Description: Datasheet; ComponentLink2URL: http://www.onsemi.com/pub_link/Collateral/1SMC5.0AT3-D.PDF; ComponentLink3Description: Package Specification; ComponentLink3URL: http://www.onsemi.com/pub_link/Collateral/403-03.PDF
footprint ONSC-SMC-2-403-03_V (Molded, 2-Leads, Body 6.86x5.84mm)
pins: 1 K, 2 A

## 1SMC33AT3
designator D?
1500 W Peak Power Zener Transient Voltage Suppressor, Unidirectional, 2-Pin SMC, Tape and Reel; Manufacturer: On Semiconductor; PartNumber: 1SMC33AT3; IR Max (uA): 5; PPK Max (W): 1500; V(BR) Typ (V): 38.65; DatasheetVersion: Rev. 8; PackageVersion: Rev. E, 08/2005; PackageReference: SMC-2-403-03; PackageDescription: 2-Pin Small Molded Package, J-Bend Lead, Body 5.845 x 6.855 mm; Supplier 1: Digi-Key; Supplier Part Number 1: 1SMC33AT3OSCT-ND; Direction: Unidirectional; Packing: Tape and Reel; Mounting Technology: Surface Mount; ComponentLink1Description: Manufacturer URL; ComponentLink1URL: http://www.onsemi.com/; ComponentLink2Description: Datasheet; ComponentLink2URL: http://www.onsemi.com/pub_link/Collateral/1SMC5.0AT3-D.PDF; ComponentLink3Description: Package Specification; ComponentLink3URL: http://www.onsemi.com/pub_link/Collateral/403-03.PDF
footprint ONSC-SMC-2-403-03_V (Molded, 2-Leads, Body 6.86x5.84mm)
pins: 1 K, 2 A

## 1SMC33AT3G
designator D?
1500 W Peak Power Zener Transient Voltage Suppressor, Unidirectional, 2-Pin SMC, Pb-Free, Tape and Reel; Manufacturer: On Semiconductor; PartNumber: 1SMC33AT3G; IR Max (uA): 5; PPK Max (W): 1500; V(BR) Typ (V): 38.65; DatasheetVersion: Rev. 8; PackageVersion: Rev. E, 08/2005; PackageReference: SMC-2-403-03; PackageDescription: 2-Pin Small Molded Package, J-Bend Lead, Body 5.845 x 6.855 mm; Supplier 1: Digi-Key; Supplier Part Number 1: 1SMC33AT3GOSTR-ND; Supplier 2: Digi-Key; Supplier Part Number 2: 1SMC33AT3GOSCT-ND; Supplier 3: Digi-Key; Supplier Part Number 3: 1SMC33AT3GOSDKR-ND; Supplier 4: Farnell; Supplier Part Number 4: 1155744; Supplier 5: Newark; Supplier Part Number 5: 88H5167; Supplier 6: Mouser; Supplier Part Number 6: 863-1SMC33AT3G; Direction: Unidirectional; Packing: Tape and Reel; RoHS: Pb-Free; Mounting Technology: Surface Mount; ComponentLink1Description: Manufacturer URL; ComponentLink1URL: http://www.onsemi.com/; ComponentLink2Description: Datasheet; ComponentLink2URL: http://www.onsemi.com/pub_link/Collateral/1SMC5.0AT3-D.PDF; ComponentLink3Description: Package Specification; ComponentLink3URL: http://www.onsemi.com/pub_link/Collateral/403-03.PDF
footprint ONSC-SMC-2-403-03_V (Molded, 2-Leads, Body 6.86x5.84mm)
pins: 1 K, 2 A

## 1SMC36AT3
designator D?
1500 W Peak Power Zener Transient Voltage Suppressor, Unidirectional, 2-Pin SMC, Tape and Reel; Manufacturer: On Semiconductor; PartNumber: 1SMC36AT3; IR Max (uA): 5; PPK Max (W): 1500; V(BR) Typ (V): 42.1; DatasheetVersion: Rev. 8; PackageVersion: Rev. E, 08/2005; PackageReference: SMC-2-403-03; PackageDescription: 2-Pin Small Molded Package, J-Bend Lead, Body 5.845 x 6.855 mm; Supplier 1: Digi-Key; Supplier Part Number 1: 1SMC36AT3OSTR-ND; Supplier 2: Digi-Key; Supplier Part Number 2: 1SMC36AT3OSCT-ND; Direction: Unidirectional; Packing: Tape and Reel; Mounting Technology: Surface Mount; ComponentLink1Description: Manufacturer URL; ComponentLink1URL: http://www.onsemi.com/; ComponentLink2Description: Datasheet; ComponentLink2URL: http://www.onsemi.com/pub_link/Collateral/1SMC5.0AT3-D.PDF; ComponentLink3Description: Package Specification; ComponentLink3URL: http://www.onsemi.com/pub_link/Collateral/403-03.PDF
footprint ONSC-SMC-2-403-03_V (Molded, 2-Leads, Body 6.86x5.84mm)
pins: 1 K, 2 A

## 1SMC36AT3G
designator D?
1500 W Peak Power Zener Transient Voltage Suppressor, Unidirectional, 2-Pin SMC, Pb-Free, Tape and Reel; Manufacturer: On Semiconductor; PartNumber: 1SMC36AT3G; IR Max (uA): 5; PPK Max (W): 1500; V(BR) Typ (V): 42.1; DatasheetVersion: Rev. 8; PackageVersion: Rev. E, 08/2005; PackageReference: SMC-2-403-03; PackageDescription: 2-Pin Small Molded Package, J-Bend Lead, Body 5.845 x 6.855 mm; Supplier 1: Digi-Key; Supplier Part Number 1: 1SMC36AT3GOSTR-ND; Supplier 2: Digi-Key; Supplier Part Number 2: 1SMC36AT3GOSCT-ND; Supplier 3: Digi-Key; Supplier Part Number 3: 1SMC36AT3GOSDKR-ND; Supplier 4: Farnell; Supplier Part Number 4: 2317499; Supplier 5: Newark; Supplier Part Number 5: 42K3118; Supplier 6: Mouser; Supplier Part Number 6: 863-1SMC36AT3G; Direction: Unidirectional; Packing: Tape and Reel; RoHS: Pb-Free; Mounting Technology: Surface Mount; ComponentLink1Description: Manufacturer URL; ComponentLink1URL: http://www.onsemi.com/; ComponentLink2Description: Datasheet; ComponentLink2URL: http://www.onsemi.com/pub_link/Collateral/1SMC5.0AT3-D.PDF; ComponentLink3Description: Package Specification; ComponentLink3URL: http://www.onsemi.com/pub_link/Collateral/403-03.PDF
footprint ONSC-SMC-2-403-03_V (Molded, 2-Leads, Body 6.86x5.84mm)
pins: 1 K, 2 A

## 1SMC40AT3
designator D?
1500 W Peak Power Zener Transient Voltage Suppressor, Unidirectional, 2-Pin SMC, Tape and Reel; Manufacturer: On Semiconductor; PartNumber: 1SMC40AT3; IR Max (uA): 5; PPK Max (W): 1500; V(BR) Typ (V): 46.75; DatasheetVersion: Rev. 8; PackageVersion: Rev. E, 08/2005; PackageReference: SMC-2-403-03; PackageDescription: 2-Pin Small Molded Package, J-Bend Lead, Body 5.845 x 6.855 mm; Direction: Unidirectional; Packing: Tape and Reel; Mounting Technology: Surface Mount; ComponentLink1Description: Manufacturer URL; ComponentLink1URL: http://www.onsemi.com/; ComponentLink2Description: Datasheet; ComponentLink2URL: http://www.onsemi.com/pub_link/Collateral/1SMC5.0AT3-D.PDF; ComponentLink3Description: Package Specification; ComponentLink3URL: http://www.onsemi.com/pub_link/Collateral/403-03.PDF
footprint ONSC-SMC-2-403-03_V (Molded, 2-Leads, Body 6.86x5.84mm)
pins: 1 K, 2 A

## 1SMC40AT3G
designator D?
1500 W Peak Power Zener Transient Voltage Suppressor, Unidirectional, 2-Pin SMC, Pb-Free, Tape and Reel; Manufacturer: On Semiconductor; PartNumber: 1SMC40AT3G; IR Max (uA): 5; PPK Max (W): 1500; V(BR) Typ (V): 46.75; DatasheetVersion: Rev. 8; PackageVersion: Rev. E, 08/2005; PackageReference: SMC-2-403-03; PackageDescription: 2-Pin Small Molded Package, J-Bend Lead, Body 5.845 x 6.855 mm; Supplier 1: Digi-Key; Supplier Part Number 1: 1SMC40AT3GOSTR-ND; Supplier 2: Digi-Key; Supplier Part Number 2: 1SMC40AT3GOSCT-ND; Supplier 3: Digi-Key; Supplier Part Number 3: 1SMC40AT3GOSDKR-ND; Supplier 4: Newark; Supplier Part Number 4: 26K5271; Supplier 5: Mouser; Supplier Part Number 5: 863-1SMC40AT3G; Direction: Unidirectional; Packing: Tape and Reel; RoHS: Pb-Free; Mounting Technology: Surface Mount; ComponentLink1Description: Manufacturer URL; ComponentLink1URL: http://www.onsemi.com/; ComponentLink2Description: Datasheet; ComponentLink2URL: http://www.onsemi.com/pub_link/Collateral/1SMC5.0AT3-D.PDF; ComponentLink3Description: Package Specification; ComponentLink3URL: http://www.onsemi.com/pub_link/Collateral/403-03.PDF
footprint ONSC-SMC-2-403-03_V (Molded, 2-Leads, Body 6.86x5.84mm)
pins: 1 K, 2 A

## 1SMC43AT3G
designator D?
1500 W Peak Power Zener Transient Voltage Suppressor, Unidirectional, 2-Pin SMC, Pb-Free, Tape and Reel; Manufacturer: On Semiconductor; PartNumber: 1SMC43AT3G; IR Max (uA): 5; PPK Max (W): 1500; V(BR) Typ (V): 50.3; DatasheetVersion: Rev. 8; PackageVersion: Rev. E, 08/2005; PackageReference: SMC-2-403-03; PackageDescription: 2-Pin Small Molded Package, J-Bend Lead, Body 5.845 x 6.855 mm; Supplier 1: Digi-Key; Supplier Part Number 1: 1SMC43AT3G-ND; Supplier 2: Newark; Supplier Part Number 2: 03M1237; Supplier 3: Mouser; Supplier Part Number 3: 863-1SMC43AT3G; Direction: Unidirectional; Packing: Tape and Reel; RoHS: Pb-Free; Mounting Technology: Surface Mount; ComponentLink1Description: Manufacturer URL; ComponentLink1URL: http://www.onsemi.com/; ComponentLink2Description: Datasheet; ComponentLink2URL: http://www.onsemi.com/pub_link/Collateral/1SMC5.0AT3-D.PDF; ComponentLink3Description: Package Specification; ComponentLink3URL: http://www.onsemi.com/pub_link/Collateral/403-03.PDF
footprint ONSC-SMC-2-403-03_V (Molded, 2-Leads, Body 6.86x5.84mm)
pins: 1 K, 2 A

## 1SMC48AT3G
designator D?
1500 W Peak Power Zener Transient Voltage Suppressor, Unidirectional, 2-Pin SMC, Pb-Free, Tape and Reel; Manufacturer: On Semiconductor; PartNumber: 1SMC48AT3G; IR Max (uA): 5; PPK Max (W): 1500; V(BR) Typ (V): 56.1; DatasheetVersion: Rev. 8; PackageVersion: Rev. E, 08/2005; PackageReference: SMC-2-403-03; PackageDescription: 2-Pin Small Molded Package, J-Bend Lead, Body 5.845 x 6.855 mm; Supplier 1: Digi-Key; Supplier Part Number 1: 1SMC48AT3G-ND; Supplier 2: Newark; Supplier Part Number 2: 45J2467; Supplier 3: Mouser; Supplier Part Number 3: 863-1SMC48AT3G; Direction: Unidirectional; Packing: Tape and Reel; RoHS: Pb-Free; Mounting Technology: Surface Mount; ComponentLink1Description: Manufacturer URL; ComponentLink1URL: http://www.onsemi.com/; ComponentLink2Description: Datasheet; ComponentLink2URL: http://www.onsemi.com/pub_link/Collateral/1SMC5.0AT3-D.PDF; ComponentLink3Description: Package Specification; ComponentLink3URL: http://www.onsemi.com/pub_link/Collateral/403-03.PDF
footprint ONSC-SMC-2-403-03_V (Molded, 2-Leads, Body 6.86x5.84mm)
pins: 1 K, 2 A

## 1SMC54AT3G
designator D?
1500 W Peak Power Zener Transient Voltage Suppressor, Unidirectional, 2-Pin SMC, Pb-Free, Tape and Reel; Manufacturer: On Semiconductor; PartNumber: 1SMC54AT3G; IR Max (uA): 5; PPK Max (W): 1500; V(BR) Typ (V): 63.15; DatasheetVersion: Rev. 8; PackageVersion: Rev. E, 08/2005; PackageReference: SMC-2-403-03; PackageDescription: 2-Pin Small Molded Package, J-Bend Lead, Body 5.845 x 6.855 mm; Supplier 1: Digi-Key; Supplier Part Number 1: 1SMC54AT3GOSTR-ND; Supplier 2: Digi-Key; Supplier Part Number 2: 1SMC54AT3GOSCT-ND; Supplier 3: Digi-Key; Supplier Part Number 3: 1SMC54AT3GOSDKR-ND; Supplier 4: Newark; Supplier Part Number 4: 42K3119; Supplier 5: Mouser; Supplier Part Number 5: 863-1SMC54AT3G; Direction: Unidirectional; Packing: Tape and Reel; RoHS: Pb-Free; Mounting Technology: Surface Mount; ComponentLink1Description: Manufacturer URL; ComponentLink1URL: http://www.onsemi.com/; ComponentLink2Description: Datasheet; ComponentLink2URL: http://www.onsemi.com/pub_link/Collateral/1SMC5.0AT3-D.PDF; ComponentLink3Description: Package Specification; ComponentLink3URL: http://www.onsemi.com/pub_link/Collateral/403-03.PDF
footprint ONSC-SMC-2-403-03_V (Molded, 2-Leads, Body 6.86x5.84mm)
pins: 1 K, 2 A

## 1SMC58AT3G
designator D?
1500 W Peak Power Zener Transient Voltage Suppressor, Unidirectional, 2-Pin SMC, Pb-Free, Tape and Reel; Manufacturer: On Semiconductor; PartNumber: 1SMC58AT3G; IR Max (uA): 5; PPK Max (W): 1500; V(BR) Typ (V): 67.8; DatasheetVersion: Rev. 8; PackageVersion: Rev. E, 08/2005; PackageReference: SMC-2-403-03; PackageDescription: 2-Pin Small Molded Package, J-Bend Lead, Body 5.845 x 6.855 mm; Supplier 1: Digi-Key; Supplier Part Number 1: 1SMC58AT3GOSTR-ND; Supplier 2: Digi-Key; Supplier Part Number 2: 1SMC58AT3GOSCT-ND; Supplier 3: Digi-Key; Supplier Part Number 3: 1SMC58AT3GOSDKR-ND; Supplier 4: Newark; Supplier Part Number 4: 45J2469; Supplier 5: Newark; Supplier Part Number 5: 10N9682; Supplier 6: Mouser; Supplier Part Number 6: 863-1SMC58AT3G; Direction: Unidirectional; Packing: Tape and Reel; RoHS: Pb-Free; Mounting Technology: Surface Mount; ComponentLink1Description: Manufacturer URL; ComponentLink1URL: http://www.onsemi.com/; ComponentLink2Description: Datasheet; ComponentLink2URL: http://www.onsemi.com/pub_link/Collateral/1SMC5.0AT3-D.PDF; ComponentLink3Description: Package Specification; ComponentLink3URL: http://www.onsemi.com/pub_link/Collateral/403-03.PDF
footprint ONSC-SMC-2-403-03_V (Molded, 2-Leads, Body 6.86x5.84mm)
pins: 1 K, 2 A

## 1SMC60AT3G
designator D?
1500 W Peak Power Zener Transient Voltage Suppressor, Unidirectional, 2-Pin SMC, Pb-Free, Tape and Reel; Manufacturer: On Semiconductor; PartNumber: 1SMC60AT3G; IR Max (uA): 5; PPK Max (W): 1500; V(BR) Typ (V): 70.2; DatasheetVersion: Rev. 8; PackageVersion: Rev. E, 08/2005; PackageReference: SMC-2-403-03; PackageDescription: 2-Pin Small Molded Package, J-Bend Lead, Body 5.845 x 6.855 mm; Supplier 1: Digi-Key; Supplier Part Number 1: 1SMC60AT3G-ND; Supplier 2: Newark; Supplier Part Number 2: 83K8790; Supplier 3: Mouser; Supplier Part Number 3: 863-1SMC60AT3G; Direction: Unidirectional; Packing: Tape and Reel; RoHS: Pb-Free; Mounting Technology: Surface Mount; ComponentLink1Description: Manufacturer URL; ComponentLink1URL: http://www.onsemi.com/; ComponentLink2Description: Datasheet; ComponentLink2URL: http://www.onsemi.com/pub_link/Collateral/1SMC5.0AT3-D.PDF; ComponentLink3Description: Package Specification; ComponentLink3URL: http://www.onsemi.com/pub_link/Collateral/403-03.PDF
footprint ONSC-SMC-2-403-03_V (Molded, 2-Leads, Body 6.86x5.84mm)
pins: 1 K, 2 A

## 1SMC64AT3G
designator D?
1500 W Peak Power Zener Transient Voltage Suppressor, Unidirectional, 2-Pin SMC, Pb-Free, Tape and Reel; Manufacturer: On Semiconductor; PartNumber: 1SMC64AT3G; IR Max (uA): 5; PPK Max (W): 1500; V(BR) Typ (V): 74.85; DatasheetVersion: Rev. 8; PackageVersion: Rev. E, 08/2005; PackageReference: SMC-2-403-03; PackageDescription: 2-Pin Small Molded Package, J-Bend Lead, Body 5.845 x 6.855 mm; Supplier 1: Digi-Key; Supplier Part Number 1: 1SMC64AT3G-ND; Supplier 2: Mouser; Supplier Part Number 2: 863-1SMC64AT3G; Direction: Unidirectional; Packing: Tape and Reel; RoHS: Pb-Free; Mounting Technology: Surface Mount; ComponentLink1Description: Manufacturer URL; ComponentLink1URL: http://www.onsemi.com/; ComponentLink2Description: Datasheet; ComponentLink2URL: http://www.onsemi.com/pub_link/Collateral/1SMC5.0AT3-D.PDF; ComponentLink3Description: Package Specification; ComponentLink3URL: http://www.onsemi.com/pub_link/Collateral/403-03.PDF
footprint ONSC-SMC-2-403-03_V (Molded, 2-Leads, Body 6.86x5.84mm)
pins: 1 K, 2 A

## 1SMC70AT3
designator D?
1500 W Peak Power Zener Transient Voltage Suppressor, Unidirectional, 2-Pin SMC, Tape and Reel; Manufacturer: On Semiconductor; PartNumber: 1SMC70AT3; IR Max (uA): 5; PPK Max (W): 1500; V(BR) Typ (V): 81.9; DatasheetVersion: Rev. 8; PackageVersion: Rev. E, 08/2005; PackageReference: SMC-2-403-03; PackageDescription: 2-Pin Small Molded Package, J-Bend Lead, Body 5.845 x 6.855 mm; Direction: Unidirectional; Packing: Tape and Reel; Mounting Technology: Surface Mount; ComponentLink1Description: Manufacturer URL; ComponentLink1URL: http://www.onsemi.com/; ComponentLink2Description: Datasheet; ComponentLink2URL: http://www.onsemi.com/pub_link/Collateral/1SMC5.0AT3-D.PDF; ComponentLink3Description: Package Specification; ComponentLink3URL: http://www.onsemi.com/pub_link/Collateral/403-03.PDF
footprint ONSC-SMC-2-403-03_V (Molded, 2-Leads, Body 6.86x5.84mm)
pins: 1 K, 2 A

## 1SMC70AT3G
designator D?
1500 W Peak Power Zener Transient Voltage Suppressor, Unidirectional, 2-Pin SMC, Pb-Free, Tape and Reel; Manufacturer: On Semiconductor; PartNumber: 1SMC70AT3G; IR Max (uA): 5; PPK Max (W): 1500; V(BR) Typ (V): 81.9; DatasheetVersion: Rev. 8; PackageVersion: Rev. E, 08/2005; PackageReference: SMC-2-403-03; PackageDescription: 2-Pin Small Molded Package, J-Bend Lead, Body 5.845 x 6.855 mm; Supplier 1: Digi-Key; Supplier Part Number 1: 1SMC70AT3G-ND; Supplier 2: Newark; Supplier Part Number 2: 42K3120; Supplier 3: Mouser; Supplier Part Number 3: 863-1SMC70AT3G; Direction: Unidirectional; Packing: Tape and Reel; RoHS: Pb-Free; Mounting Technology: Surface Mount; ComponentLink1Description: Manufacturer URL; ComponentLink1URL: http://www.onsemi.com/; ComponentLink2Description: Datasheet; ComponentLink2URL: http://www.onsemi.com/pub_link/Collateral/1SMC5.0AT3-D.PDF; ComponentLink3Description: Package Specification; ComponentLink3URL: http://www.onsemi.com/pub_link/Collateral/403-03.PDF
footprint ONSC-SMC-2-403-03_V (Molded, 2-Leads, Body 6.86x5.84mm)
pins: 1 K, 2 A

## 1SMC75AT3G
designator D?
1500 W Peak Power Zener Transient Voltage Suppressor, Unidirectional, 2-Pin SMC, Pb-Free, Tape and Reel; Manufacturer: On Semiconductor; PartNumber: 1SMC75AT3G; IR Max (uA): 5; PPK Max (W): 1500; V(BR) Typ (V): 87.7; DatasheetVersion: Rev. 8; PackageVersion: Rev. E, 08/2005; PackageReference: SMC-2-403-03; PackageDescription: 2-Pin Small Molded Package, J-Bend Lead, Body 5.845 x 6.855 mm; Supplier 1: Digi-Key; Supplier Part Number 1: 1SMC75AT3G-ND; Supplier 2: Newark; Supplier Part Number 2: 42K3121; Supplier 3: Mouser; Supplier Part Number 3: 863-1SMC75AT3G; Direction: Unidirectional; Packing: Tape and Reel; RoHS: Pb-Free; Mounting Technology: Surface Mount; ComponentLink1Description: Manufacturer URL; ComponentLink1URL: http://www.onsemi.com/; ComponentLink2Description: Datasheet; ComponentLink2URL: http://www.onsemi.com/pub_link/Collateral/1SMC5.0AT3-D.PDF; ComponentLink3Description: Package Specification; ComponentLink3URL: http://www.onsemi.com/pub_link/Collateral/403-03.PDF
footprint ONSC-SMC-2-403-03_V (Molded, 2-Leads, Body 6.86x5.84mm)
pins: 1 K, 2 A

## 1SMC78AT3G
designator D?
1500 W Peak Power Zener Transient Voltage Suppressor, Unidirectional, 2-Pin SMC, Pb-Free, Tape and Reel; Manufacturer: On Semiconductor; PartNumber: 1SMC78AT3G; IR Max (uA): 5; PPK Max (W): 1500; V(BR) Typ (V): 91.25; DatasheetVersion: Rev. 8; PackageVersion: Rev. E, 08/2005; PackageReference: SMC-2-403-03; PackageDescription: 2-Pin Small Molded Package, J-Bend Lead, Body 5.845 x 6.855 mm; Supplier 1: Digi-Key; Supplier Part Number 1: 1SMC78AT3G-ND; Supplier 2: Mouser; Supplier Part Number 2: 863-1SMC78AT3G; Direction: Unidirectional; Packing: Tape and Reel; RoHS: Pb-Free; Mounting Technology: Surface Mount; ComponentLink1Description: Manufacturer URL; ComponentLink1URL: http://www.onsemi.com/; ComponentLink2Description: Datasheet; ComponentLink2URL: http://www.onsemi.com/pub_link/Collateral/1SMC5.0AT3-D.PDF; ComponentLink3Description: Package Specification; ComponentLink3URL: http://www.onsemi.com/pub_link/Collateral/403-03.PDF
footprint ONSC-SMC-2-403-03_V (Molded, 2-Leads, Body 6.86x5.84mm)
pins: 1 K, 2 A

## CM6136
designator U?
Single-Channel Transient Voltage Suppressor, -30 to 85 degC, 4-Pin WLCSP, Pb-Free, Tape and Reel; Manufacturer: On Semiconductor; PartNumber: CM6136; Direction: Unidirectional; DatasheetVersion: Rev. 1; PackageVersion: Rev. O, 07/2010; PackageReference: WLCSP-4-567CA-01; PackageDescription: 4-Ball Wafer Level Chip Scale Package, Body 0.8 x 0.8 mm, Pitch 0.4 mm; Packing: Tape and Reel; RoHS: Pb-Free; Mounting Technology: Surface Mount; ComponentLink1Description: Manufacturer URL; ComponentLink1URL: http://www.onsemi.com/; ComponentLink2Description: Datasheet; ComponentLink2URL: http://www.onsemi.com/pub_link/Collateral/CM6136-D.PDF; ComponentLink3Description: Package Specification; ComponentLink3URL: http://www.onsemi.com/pub_link/Collateral/567CA.PDF
footprint ONSC-WLCSP-4-567CA-01 (BGA, 4-Balls, Body 0.8x0.8mm, Pitch 0.4mm)
pins: A1 "Fuse Terminal 1", A2 "TVS Channel / Fuse Terminal 2", B1 GND (power) "Device Ground", B2 GND (power) "Device Ground"

## ICTE-5RLG
designator D?
1500 W Peak Power, Mosorb(TM) Zener Transient Voltage Suppressor, 2-Pin MOSORB, Pb-Free, Tape and Reel; Manufacturer: On Semiconductor; PartNumber: ICTE-5RLG; Direction: Unidirectional; IR Max (uA): 300; PPK Max (W): 1500; DatasheetVersion: Rev. 5; PackageVersion: Rev. D, 01/2002; PackageReference: MOSORB-2-41A-04; PackageDescription: 2-Pin, Axial Lead, Diameter 5.05 mm; Packing: Tape and Reel; RoHS: Pb-Free; Mounting Technology: Through Hole; ComponentLink1Description: Manufacturer URL; ComponentLink1URL: http://www.onsemi.com/; ComponentLink2Description: Datasheet; ComponentLink2URL: http://www.onsemi.com/pub_link/Collateral/1N6373-D.PDF; ComponentLink3Description: Package Specification; ComponentLink3URL: http://www.onsemi.com/pub_link/Collateral/41A-04.PDF
footprint ONSC-MOSORB-2-41A-04 (AXIAL, 2-Leads, Diameter 5.05mm)
pins: 1 K, 2 A

## ICTE-12RLG
designator D?
1500 W Peak Power, Mosorb(TM) Zener Transient Voltage Suppressor, 2-Pin MOSORB, Pb-Free, Tape and Reel; Manufacturer: On Semiconductor; PartNumber: ICTE-12RLG; Direction: Unidirectional; IR Max (uA): 2; PPK Max (W): 1500; DatasheetVersion: Rev. 5; PackageVersion: Rev. D, 01/2002; PackageReference: MOSORB-2-41A-04; PackageDescription: 2-Pin, Axial Lead, Diameter 5.05 mm; Packing: Tape and Reel; RoHS: Pb-Free; Mounting Technology: Through Hole; ComponentLink1Description: Manufacturer URL; ComponentLink1URL: http://www.onsemi.com/; ComponentLink2Description: Datasheet; ComponentLink2URL: http://www.onsemi.com/pub_link/Collateral/1N6373-D.PDF; ComponentLink3Description: Package Specification; ComponentLink3URL: http://www.onsemi.com/pub_link/Collateral/41A-04.PDF
footprint ONSC-MOSORB-2-41A-04 (AXIAL, 2-Leads, Diameter 5.05mm)
pins: 1 K, 2 A